# EAGLE library part PIN_HEADER_13_POSITIONS (library Nwazet.Go)
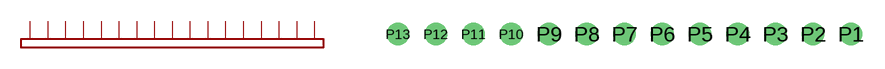
[diagram p17: symbol with the pads of PIN_HEADER_13_POSITIONS; footprint PIN_HEADER_13_POSITIONS]

Designator prefix -

## PIN_HEADER_13_POSITIONS  [PIN_HEADER_13_POSITIONS]
P1  P$1
P2  P$2
P3  P$3
P4  P$4
P5  P$5
P6  P$6
P7  P$7
P8  P$8
P9  P$9
P10  P$10
P11  P$11
P12  P$12
P13  P$13

## Footprint PIN_HEADER_13_POSITIONS (pad centres in mm)
drill 1.016: P1 15.24,0; P2 12.7,0; P3 10.16,0; P4 7.62,0; P5 5.08,0; P6 2.54,0; P7 0,0; P8 -2.54,0; P9 -5.08,0; P10 -7.62,0; P11 -10.16,0; P12 -12.7,0; P13 -15.24,0